# Altium schematic symbol library HW-20-XX-XX-D-XXX-XXX.SchLib: 1 symbol
Pins are listed as number, name and electrical type; pins without a type are passive.

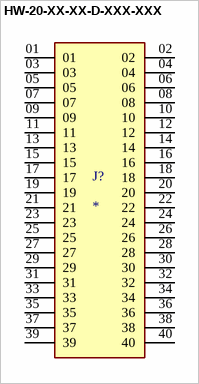
[diagram p0: symbol HW-20-XX-XX-D-XXX-XXX]

## HW-20-XX-XX-D-XXX-XXX
designator J?
MF: Samtec; MP: HW-20-08-G-D-350-100; Check_prices: https://www.snapeda.com/parts/HW-20-08-G-D-350-100/Samtec/view-part/?ref=eda; Value: *; Availability: Not in stock; Price: None; Package: None; SnapEDA_Link: https://www.snapeda.com/parts/HW-20-08-G-D-350-100/Samtec/view-part/?ref=snap
footprint SAMTEC_HW-20-XX-XX-D-XXX-XXX
pins: 01, 02, 03, 04, 05, 06, 07, 08, 09, 10, 11, 12, 13, 14, 15, 16, 17, 18, 19, 20, 21, 22, 23, 24, 25, 26, 27, 28, 29, 30, 31, 32, 33, 34, 35, 36, 37, 38, 39, 40